# Altium footprint library BZX85C12.PcbLib: 1 footprints
Each footprint in its own frame and in the unit in brackets; x right, y up, seen from the top. Pads: shape width x height; smd on the part's side, far side on the other; paste and mask are expansions set on the pad; w line width, h text height; cw(c..) or ccw(c..) is an arc to the next point about the centre after c.
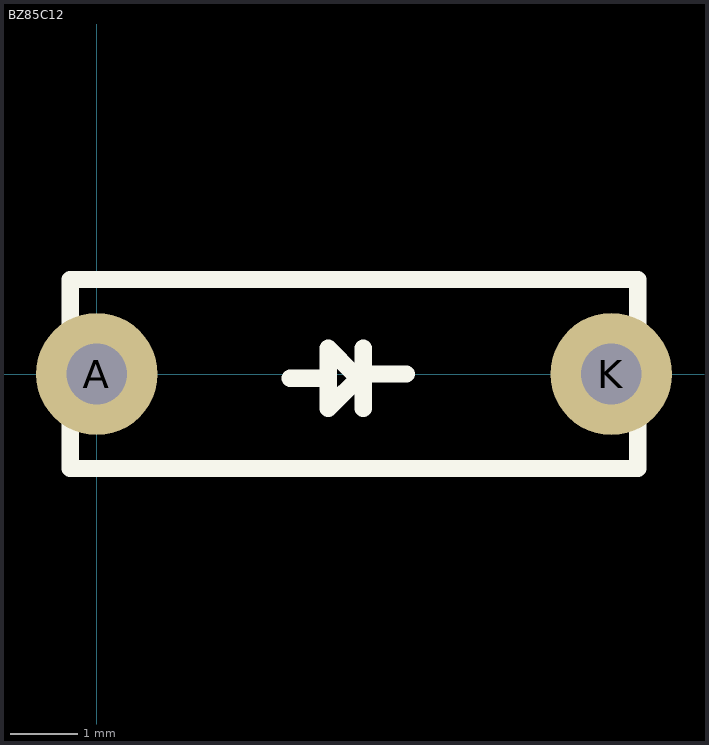
[diagram p0: the footprint, top view; thin cyan lines are the x and y axes]

## BZ85C12 [mm] "DIODE ZENER 12V 1W DO41"
pads (2):
  round 1.8 hole 0.9: A(0,0) K(7.6,0)
Top Overlay:
  lines w0.254: 2.857,-0.064 3.419,-0.064 ; 3.8,0 3.419,0.381 3.419,-0.508 3.927,0 4.572,0 ; 3.937,-0.508 3.937,0.381 ; -0.391,-1.397 7.991,-1.397 7.991,1.397 -0.391,1.397 -0.391,-1.397
3D body "User Library-Zener 1W.step": height 3.33, standoff -1, extent -0.404,-1.333 8.004,1.334